# EAGLE library part 74CBTLV16292PAG (library SamacSys_Parts)
TSSOP 6.1 MM 0.5MM PITCH Source: Datasheet <https://www.idt.com/document/dst/74cbtlv16292-datasheet>
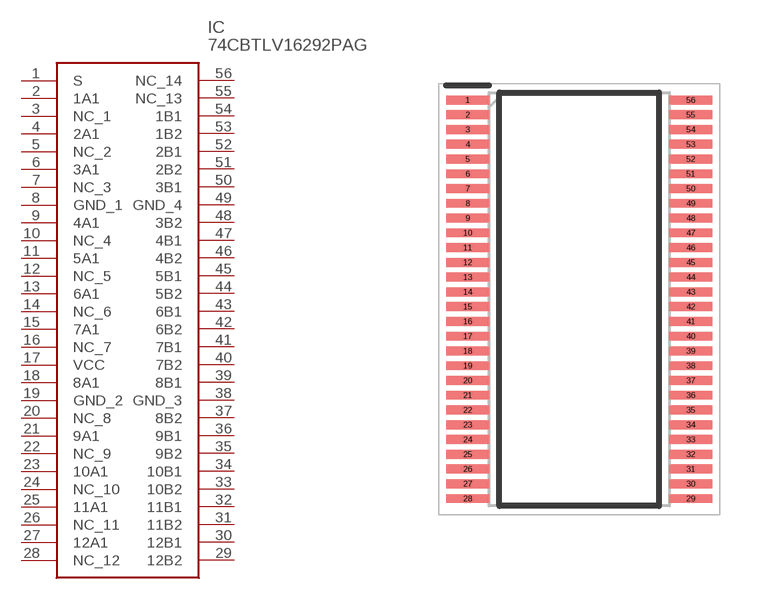
[diagram p10: symbol with the pads of SOP50P810X120-56N; footprint SOP50P810X120-56N]

Designator prefix IC

## 74CBTLV16292PAG (Description: TSSOP 6.1 MM 0.5MM PITCH; Height: 1.2mm; Manufacturer_Name: IDT; Manufacturer_Part_Number: 74CBTLV16292PAG)  [SOP50P810X120-56N]
1  S
2  1A1
3  NC_1
4  2A1
5  NC_2
6  3A1
7  NC_3
8  GND_1
9  4A1
10  NC_4
11  5A1
12  NC_5
13  6A1
14  NC_6
15  7A1
16  NC_7
17  VCC
18  8A1
19  GND_2
20  NC_8
21  9A1
22  NC_9
23  10A1
24  NC_10
25  11A1
26  NC_11
27  12A1
28  NC_12
29  12B2
30  12B1
31  11B2
32  11B1
33  10B2
34  10B1
35  9B2
36  9B1
37  8B2
38  GND_3
39  8B1
40  7B2
41  7B1
42  6B2
43  6B1
44  5B2
45  5B1
46  4B2
47  4B1
48  3B2
49  GND_4
50  3B1
51  2B2
52  2B1
53  1B2
54  1B1
55  NC_13
56  NC_14

## Footprint SOP50P810X120-56N (pad centres in mm)
PAG56
smd 1.45 x 0.3: 1 -3.775,6.75; 2 -3.775,6.25; 3 -3.775,5.75; 4 -3.775,5.25; 5 -3.775,4.75; 6 -3.775,4.25; 7 -3.775,3.75; 8 -3.775,3.25; 9 -3.775,2.75; 10 -3.775,2.25; 11 -3.775,1.75; 12 -3.775,1.25; 13 -3.775,0.75; 14 -3.775,0.25; 15 -3.775,-0.25; 16 -3.775,-0.75; 17 -3.775,-1.25; 18 -3.775,-1.75; 19 -3.775,-2.25; 20 -3.775,-2.75; 21 -3.775,-3.25; 22 -3.775,-3.75; 23 -3.775,-4.25; 24 -3.775,-4.75; 25 -3.775,-5.25; 26 -3.775,-5.75; 27 -3.775,-6.25; 28 -3.775,-6.75; 29 3.775,-6.75; 30 3.775,-6.25; 31 3.775,-5.75; 32 3.775,-5.25; 33 3.775,-4.75; 34 3.775,-4.25; 35 3.775,-3.75; 36 3.775,-3.25; 37 3.775,-2.75; 38 3.775,-2.25; 39 3.775,-1.75; 40 3.775,-1.25; 41 3.775,-0.75; 42 3.775,-0.25; 43 3.775,0.25; 44 3.775,0.75; 45 3.775,1.25; 46 3.775,1.75; 47 3.775,2.25; 48 3.775,2.75; 49 3.775,3.25; 50 3.775,3.75; 51 3.775,4.25; 52 3.775,4.75; 53 3.775,5.25; 54 3.775,5.75; 55 3.775,6.25; 56 3.775,6.75